# EAGLE library part MICRO_USB (library con-amphenol)
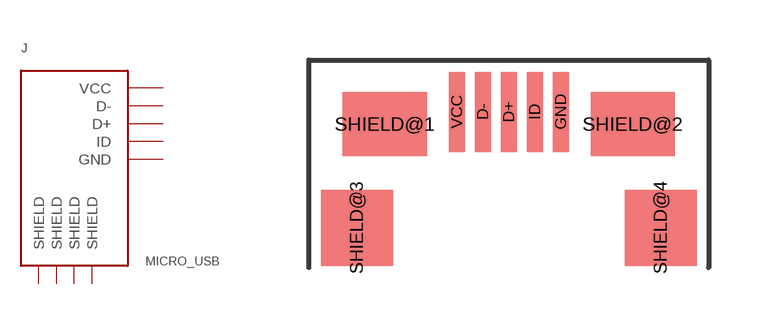
[diagram p12: symbol with the pads of MICRO-USB; footprint MICRO-USB]

Designator prefix J

## MICRO_USB  [MICRO-USB]
D+  D+
D-  D-
GND  GND
ID  ID
SHIELD@1  SHIELD
SHIELD@2  SHIELD
SHIELD@3  SHIELD
SHIELD@4  SHIELD
VCC  VCC

## Footprint MICRO-USB (pad centres in mm)
smd 0.4 x 2: D+ 0,2.9; D- -0.65,2.9; GND 1.3,2.9; ID 0.65,2.9; VCC -1.3,2.9
smd 2.1 x 1.6: SHIELD@1 -3.1,2.6; SHIELD@2 3.1,2.6
smd 1.8 x 1.9: SHIELD@3 -3.8,0; SHIELD@4 3.8,0